# EAGLE library part LAN7430 (library ds_ic_peripherals)
Low Power PCIe to Gigabit Ethernet Controller with Integrated Ethernet MAC / PHY
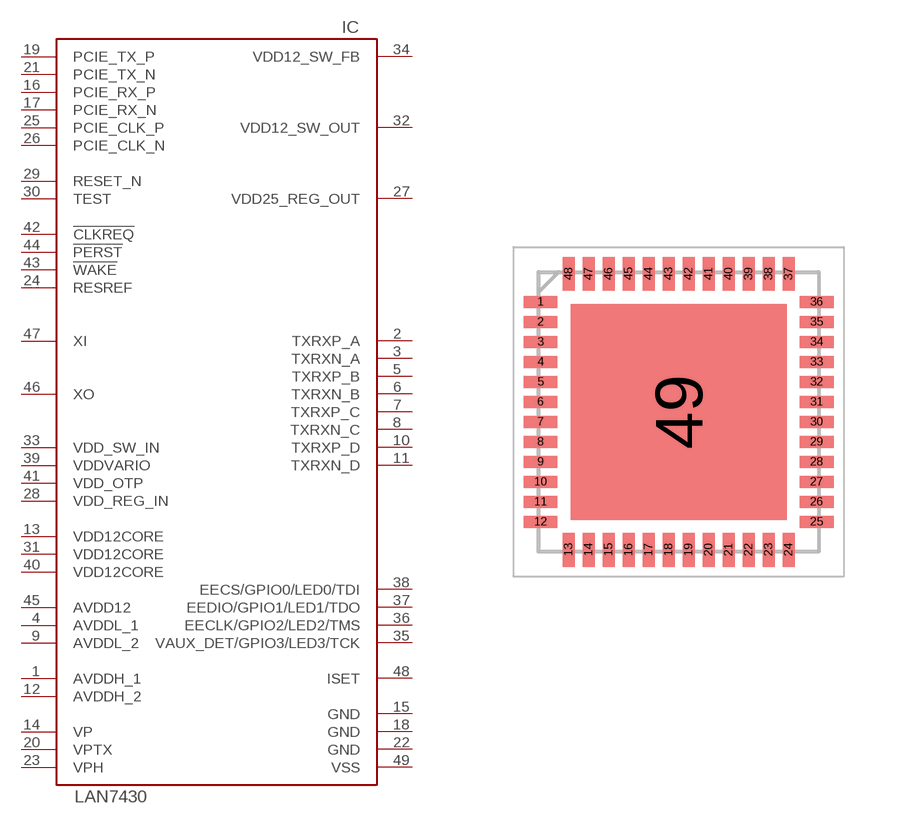
[diagram p76: symbol with the pads of SQFN48; footprint SQFN48]

Designator prefix IC

## LAN7430 (DATASHEET: https://ww1.microchip.com/downloads/aemDocuments/documents/UNG/ProductDocuments/DataSheets/LAN7430-LAN7431-Data-Sheet-DS00002631.pdf; DESCRIPTION: Low Power PCIe to Gigabit Ethernet Controller with Integrated Ethernet MAC / PHY; LSCS_PART: C625073; MANUFACTURER: Microchip; MPN: LAN7430T-I/Y9X; ROHS: YES; VALUE: LAN7430)  [SQFN48]
1  AVDDH_1
2  TXRXP_A
3  TXRXN_A
4  AVDDL_1
5  TXRXP_B
6  TXRXN_B
7  TXRXP_C
8  TXRXN_C
9  AVDDL_2
10  TXRXP_D
11  TXRXN_D
12  AVDDH_2
13  VDD12CORE
14  VP
15  GND
16  PCIE_RX_P
17  PCIE_RX_N
18  GND
19  PCIE_TX_P
20  VPTX
21  PCIE_TX_N
22  GND
23  VPH
24  RESREF
25  PCIE_CLK_P
26  PCIE_CLK_N
27  VDD25_REG_OUT
28  VDD_REG_IN
29  RESET_N
30  TEST
31  VDD12CORE
32  VDD12_SW_OUT
33  VDD_SW_IN
34  VDD12_SW_FB
35  VAUX_DET/GPIO3/LED3/TCK
36  EECLK/GPIO2/LED2/TMS
37  EEDIO/GPIO1/LED1/TDO
38  EECS/GPIO0/LED0/TDI
39  VDDVARIO
40  VDD12CORE
41  VDD_OTP
42  !CLKREQ
43  !WAKE
44  !PERST
45  AVDD12
46  XO
47  XI
48  ISET
49  VSS

## Footprint SQFN48 (pad centres in mm)
smd 0.85 x 0.3: 1 -3.45,2.75; 2 -3.45,2.25; 3 -3.45,1.75; 4 -3.45,1.25; 5 -3.45,0.75; 6 -3.45,0.25; 7 -3.45,-0.25; 8 -3.45,-0.75; 9 -3.45,-1.25; 10 -3.45,-1.75; 11 -3.45,-2.25; 12 -3.45,-2.75; 25 3.45,-2.75; 26 3.45,-2.25; 27 3.45,-1.75; 28 3.45,-1.25; 29 3.45,-0.75; 30 3.45,-0.25; 31 3.45,0.25; 32 3.45,0.75; 33 3.45,1.25; 34 3.45,1.75; 35 3.45,2.25; 36 3.45,2.75
smd 0.3 x 0.85: 13 -2.75,-3.45; 14 -2.25,-3.45; 15 -1.75,-3.45; 16 -1.25,-3.45; 17 -0.75,-3.45; 18 -0.25,-3.45; 19 0.25,-3.45; 20 0.75,-3.45; 21 1.25,-3.45; 22 1.75,-3.45; 23 2.25,-3.45; 24 2.75,-3.45; 37 2.75,3.45; 38 2.25,3.45; 39 1.75,3.45; 40 1.25,3.45; 41 0.75,3.45; 42 0.25,3.45; 43 -0.25,3.45; 44 -0.75,3.45; 45 -1.25,3.45; 46 -1.75,3.45; 47 -2.25,3.45; 48 -2.75,3.45
smd 5.4 x 5.4: 49 0,0